# EAGLE library part CARDSTAC_FULL_STD_ROWS_GH (library Robot)
Rows G and H of the Cardstac specification.
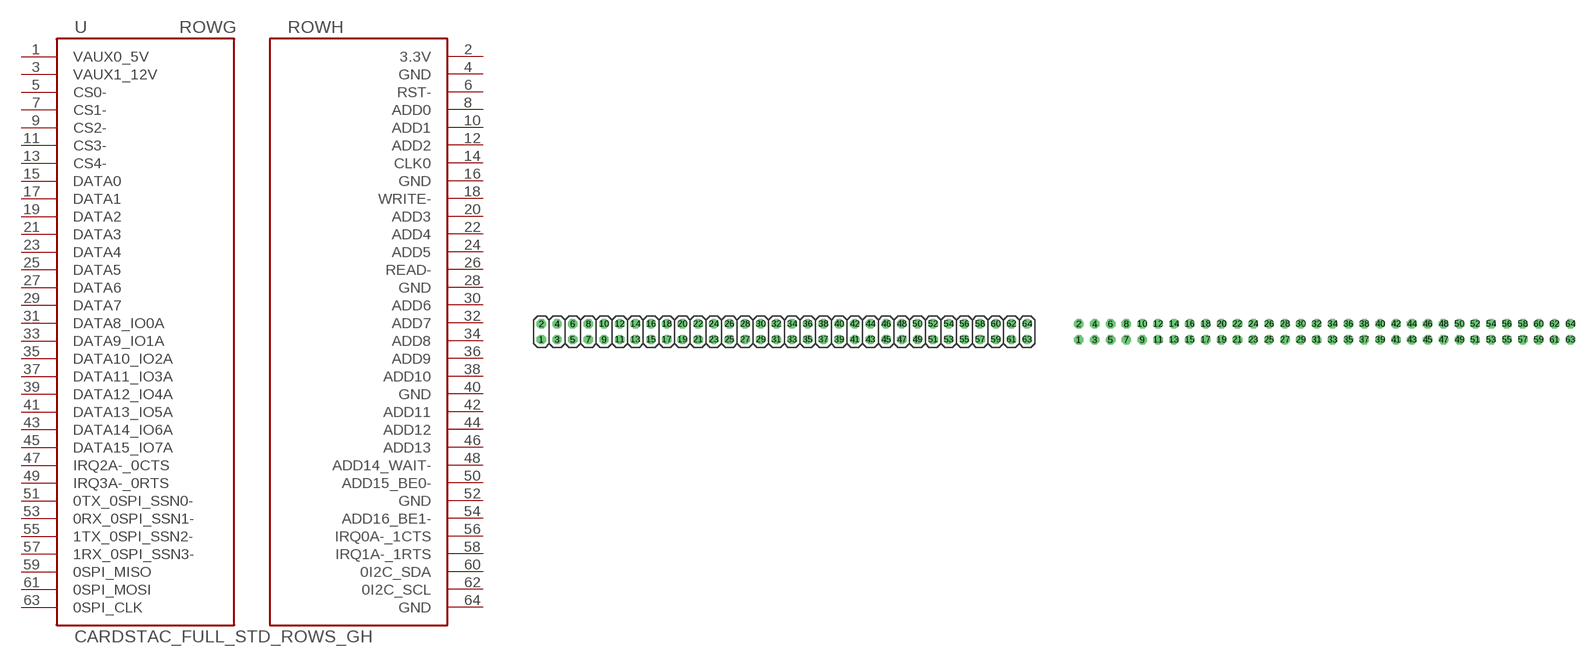
[diagram p1: symbol with the pads of 2X32; footprints 2X32, 2X32/NOSILK]

Designator prefix -

## CARDSTAC_FULL_STD_ROWS_GH_2X32  [2X32]
1  VAUX0_5V  pwr
2  3.3V  pwr
3  VAUX1_12V  pwr
4  GND  pwr
5  CS0-
6  RST-
7  CS1-
8  ADD0
9  CS2-
10  ADD1
11  CS3-
12  ADD2
13  CS4-
14  CLK0
15  DATA0
16  GND  pwr
17  DATA1
18  WRITE-
19  DATA2
20  ADD3
21  DATA3
22  ADD4
23  DATA4
24  ADD5
25  DATA5
26  READ-
27  DATA6
28  GND  pwr
29  DATA7
30  ADD6
31  DATA8_IO0A
32  ADD7
33  DATA9_IO1A
34  ADD8
35  DATA10_IO2A
36  ADD9
37  DATA11_IO3A
38  ADD10
39  DATA12_IO4A
40  GND  pwr
41  DATA13_IO5A
42  ADD11
43  DATA14_IO6A
44  ADD12
45  DATA15_IO7A
46  ADD13
47  IRQ2A-_0CTS
48  ADD14_WAIT-
49  IRQ3A-_0RTS
50  ADD15_BE0-
51  0TX_0SPI_SSN0-
52  GND  pwr
53  0RX_0SPI_SSN1-
54  ADD16_BE1-
55  1TX_0SPI_SSN2-
56  IRQ0A-_1CTS
57  1RX_0SPI_SSN3-
58  IRQ1A-_1RTS
59  0SPI_MISO
60  0I2C_SDA
61  0SPI_MOSI
62  0I2C_SCL
63  0SPI_CLK
64  GND  pwr

## CARDSTAC_FULL_STD_ROWS_GH_2X32_NOSILK  [2X32/NOSILK]
Pads as for 2X32

## Footprint 2X32 (pad centres in mm)
PIN HEADER (2X32, 0.1" spaced, 8mil silkscreen)
drill 1.016 octagon: 1 -39.37,-1.27; 2 -39.37,1.27; 3 -36.83,-1.27; 4 -36.83,1.27; 5 -34.29,-1.27; 6 -34.29,1.27; 7 -31.75,-1.27; 8 -31.75,1.27; 9 -29.21,-1.27; 10 -29.21,1.27; 11 -26.67,-1.27; 12 -26.67,1.27; 13 -24.13,-1.27; 14 -24.13,1.27; 15 -21.59,-1.27; 16 -21.59,1.27; 17 -19.05,-1.27; 18 -19.05,1.27; 19 -16.51,-1.27; 20 -16.51,1.27; 21 -13.97,-1.27; 22 -13.97,1.27; 23 -11.43,-1.27; 24 -11.43,1.27; 25 -8.89,-1.27; 26 -8.89,1.27; 27 -6.35,-1.27; 28 -6.35,1.27; 29 -3.81,-1.27; 30 -3.81,1.27; 31 -1.27,-1.27; 32 -1.27,1.27; 33 1.27,-1.27; 34 1.27,1.27; 35 3.81,-1.27; 36 3.81,1.27; 37 6.35,-1.27; 38 6.35,1.27; 39 8.89,-1.27; 40 8.89,1.27; 41 11.43,-1.27; 42 11.43,1.27; 43 13.97,-1.27; 44 13.97,1.27; 45 16.51,-1.27; 46 16.51,1.27; 47 19.05,-1.27; 48 19.05,1.27; 49 21.59,-1.27; 50 21.59,1.27; 51 24.13,-1.27; 52 24.13,1.27; 53 26.67,-1.27; 54 26.67,1.27; 55 29.21,-1.27; 56 29.21,1.27; 57 31.75,-1.27; 58 31.75,1.27; 59 34.29,-1.27; 60 34.29,1.27; 61 36.83,-1.27; 62 36.83,1.27; 63 39.37,-1.27; 64 39.37,1.27

## Footprint 2X32/NOSILK (pad centres in mm)
PIN HEADER (2X32, 0.1" spaced, no silkscreen)
drill 1.016 octagon: 1 -39.37,-1.27; 2 -39.37,1.27; 3 -36.83,-1.27; 4 -36.83,1.27; 5 -34.29,-1.27; 6 -34.29,1.27; 7 -31.75,-1.27; 8 -31.75,1.27; 9 -29.21,-1.27; 10 -29.21,1.27; 11 -26.67,-1.27; 12 -26.67,1.27; 13 -24.13,-1.27; 14 -24.13,1.27; 15 -21.59,-1.27; 16 -21.59,1.27; 17 -19.05,-1.27; 18 -19.05,1.27; 19 -16.51,-1.27; 20 -16.51,1.27; 21 -13.97,-1.27; 22 -13.97,1.27; 23 -11.43,-1.27; 24 -11.43,1.27; 25 -8.89,-1.27; 26 -8.89,1.27; 27 -6.35,-1.27; 28 -6.35,1.27; 29 -3.81,-1.27; 30 -3.81,1.27; 31 -1.27,-1.27; 32 -1.27,1.27; 33 1.27,-1.27; 34 1.27,1.27; 35 3.81,-1.27; 36 3.81,1.27; 37 6.35,-1.27; 38 6.35,1.27; 39 8.89,-1.27; 40 8.89,1.27; 41 11.43,-1.27; 42 11.43,1.27; 43 13.97,-1.27; 44 13.97,1.27; 45 16.51,-1.27; 46 16.51,1.27; 47 19.05,-1.27; 48 19.05,1.27; 49 21.59,-1.27; 50 21.59,1.27; 51 24.13,-1.27; 52 24.13,1.27; 53 26.67,-1.27; 54 26.67,1.27; 55 29.21,-1.27; 56 29.21,1.27; 57 31.75,-1.27; 58 31.75,1.27; 59 34.29,-1.27; 60 34.29,1.27; 61 36.83,-1.27; 62 36.83,1.27; 63 39.37,-1.27; 64 39.37,1.27